# EAGLE library part PICAXE18 (library cls)
Dual In Line
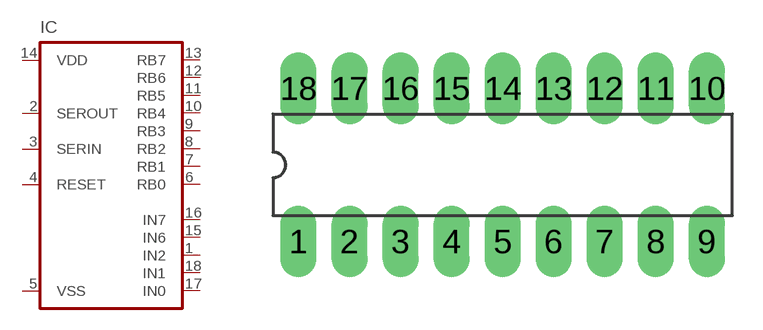
[diagram p8: symbol with the pads of DIL18; footprint DIL18]

Designator prefix IC

## PICAXE18  [DIL18]
1  IN2
2  SEROUT  in
3  SERIN  out
4  RESET  in
5  VSS  pwr
6  RB0
7  RB1
8  RB2
9  RB3
10  RB4
11  RB5
12  RB6
13  RB7
14  VDD  pwr
15  IN6
16  IN7
17  IN0
18  IN1

## Footprint DIL18 (pad centres in mm)
Dual In Line package type P
drill 0.5 pad 1.778 long: 1 -10.16,-3.81; 2 -7.62,-3.81; 3 -5.08,-3.81; 4 -2.54,-3.81; 5 0,-3.81; 6 2.54,-3.81; 7 5.08,-3.81; 8 7.62,-3.81; 9 10.16,-3.81; 10 10.16,3.81; 11 7.62,3.81; 12 5.08,3.81; 13 2.54,3.81; 14 0,3.81; 15 -2.54,3.81; 16 -5.08,3.81; 17 -7.62,3.81; 18 -10.16,3.81